# EAGLE library part MK20DX256VLH7 (library halcyonmod_Teensy)
This is a footprint for the MK20dx256VHL7, the chip at the heart of the Teensy 3.1. Notable upgrades over the Teensy 3.0 include more Flash Memory, RAM, a DAC output, additional ADC pins, etc. Remember, if you want to use USB, VOut3v3 has to be attached to the 3.3V bus.
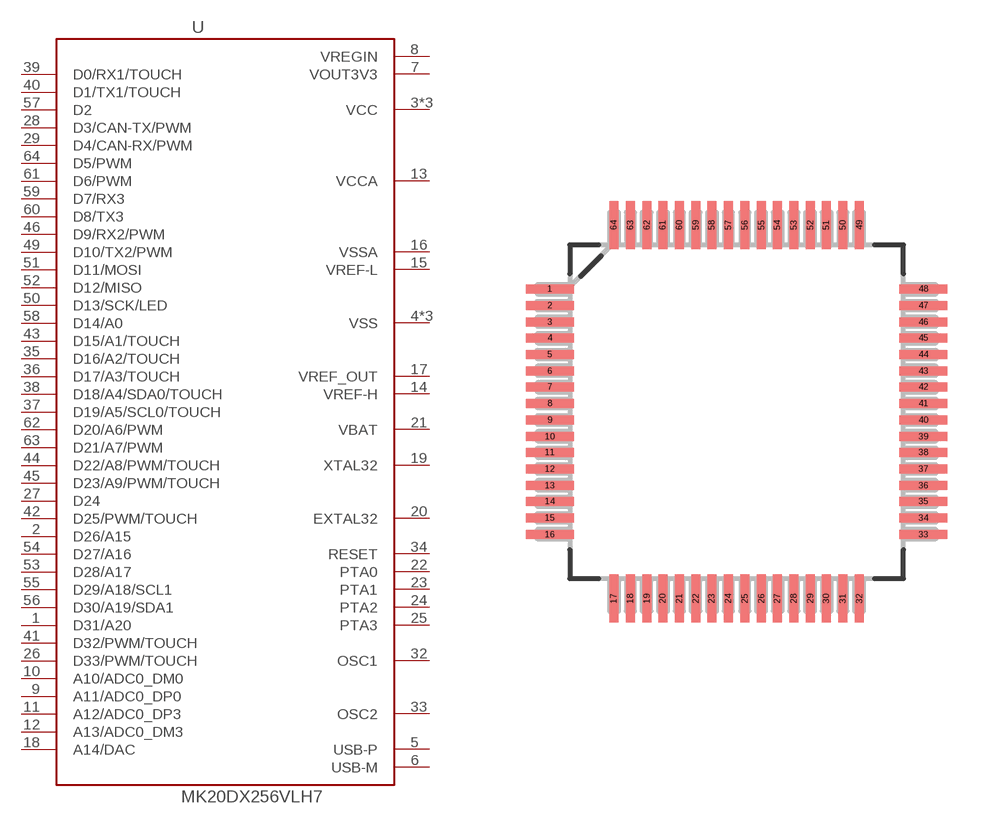
[diagram p6: symbol with the pads of QFP50P1200X1200X160-64N; footprint QFP50P1200X1200X160-64N]

Designator prefix -

## MK20DX256VLH7  [QFP50P1200X1200X160-64N]
1  D31/A20
2  D26/A15
3  VCC
4  VSS
5  USB-P
6  USB-M
7  VOUT3V3
8  VREGIN
9  A11/ADC0_DP0
10  A10/ADC0_DM0
11  A12/ADC0_DP3
12  A13/ADC0_DM3
13  VCCA
14  VREF-H
15  VREF-L
16  VSSA
17  VREF_OUT
18  A14/DAC
19  XTAL32
20  EXTAL32
21  VBAT
22  PTA0
23  PTA1
24  PTA2
25  PTA3
26  D33/PWM/TOUCH
27  D24
28  D3/CAN-TX/PWM
29  D4/CAN-RX/PWM
30  VCC
31  VSS
32  OSC1
33  OSC2
34  RESET
35  D16/A2/TOUCH
36  D17/A3/TOUCH
37  D19/A5/SCL0/TOUCH
38  D18/A4/SDA0/TOUCH
39  D0/RX1/TOUCH
40  D1/TX1/TOUCH
41  D32/PWM/TOUCH
42  D25/PWM/TOUCH
43  D15/A1/TOUCH
44  D22/A8/PWM/TOUCH
45  D23/A9/PWM/TOUCH
46  D9/RX2/PWM
47  VSS
48  VCC
49  D10/TX2/PWM
50  D13/SCK/LED
51  D11/MOSI
52  D12/MISO
53  D28/A17
54  D27/A16
55  D29/A18/SCL1
56  D30/A19/SDA1
57  D2
58  D14/A0
59  D7/RX3
60  D8/TX3
61  D6/PWM
62  D20/A6/PWM
63  D21/A7/PWM
64  D5/PWM

## Footprint QFP50P1200X1200X160-64N (pad centres in mm)
smd 1.473 x 0.279: 1 -5.715,3.759; 2 -5.715,3.251; 3 -5.715,2.743; 4 -5.715,2.261; 5 -5.715,1.753; 6 -5.715,1.245; 7 -5.715,0.762; 8 -5.715,0.254; 9 -5.715,-0.254; 10 -5.715,-0.762; 11 -5.715,-1.245; 12 -5.715,-1.753; 13 -5.715,-2.261; 14 -5.715,-2.743; 15 -5.715,-3.251; 16 -5.715,-3.759; 33 5.715,-3.759; 34 5.715,-3.251; 35 5.715,-2.743; 36 5.715,-2.261; 37 5.715,-1.753; 38 5.715,-1.245; 39 5.715,-0.762; 40 5.715,-0.254; 41 5.715,0.254; 42 5.715,0.762; 43 5.715,1.245; 44 5.715,1.753; 45 5.715,2.261; 46 5.715,2.743; 47 5.715,3.251; 48 5.715,3.759
smd 0.279 x 1.473: 17 -3.759,-5.715; 18 -3.251,-5.715; 19 -2.743,-5.715; 20 -2.261,-5.715; 21 -1.753,-5.715; 22 -1.245,-5.715; 23 -0.762,-5.715; 24 -0.254,-5.715; 25 0.254,-5.715; 26 0.762,-5.715; 27 1.245,-5.715; 28 1.753,-5.715; 29 2.261,-5.715; 30 2.743,-5.715; 31 3.251,-5.715; 32 3.759,-5.715; 49 3.759,5.715; 50 3.251,5.715; 51 2.743,5.715; 52 2.261,5.715; 53 1.753,5.715; 54 1.245,5.715; 55 0.762,5.715; 56 0.254,5.715; 57 -0.254,5.715; 58 -0.762,5.715; 59 -1.245,5.715; 60 -1.753,5.715; 61 -2.261,5.715; 62 -2.743,5.715; 63 -3.251,5.715; 64 -3.759,5.715